# Altium footprint library CONNECTOR.PcbLib: 181 footprints (part 4 of 12)
Each footprint in its own frame and in the unit in brackets; x right, y up, seen from the top. Pads: shape width x height; smd on the part's side, far side on the other; paste and mask are expansions set on the pad; w line width, h text height; cw(c..) or ccw(c..) is an arc to the next point about the centre after c.
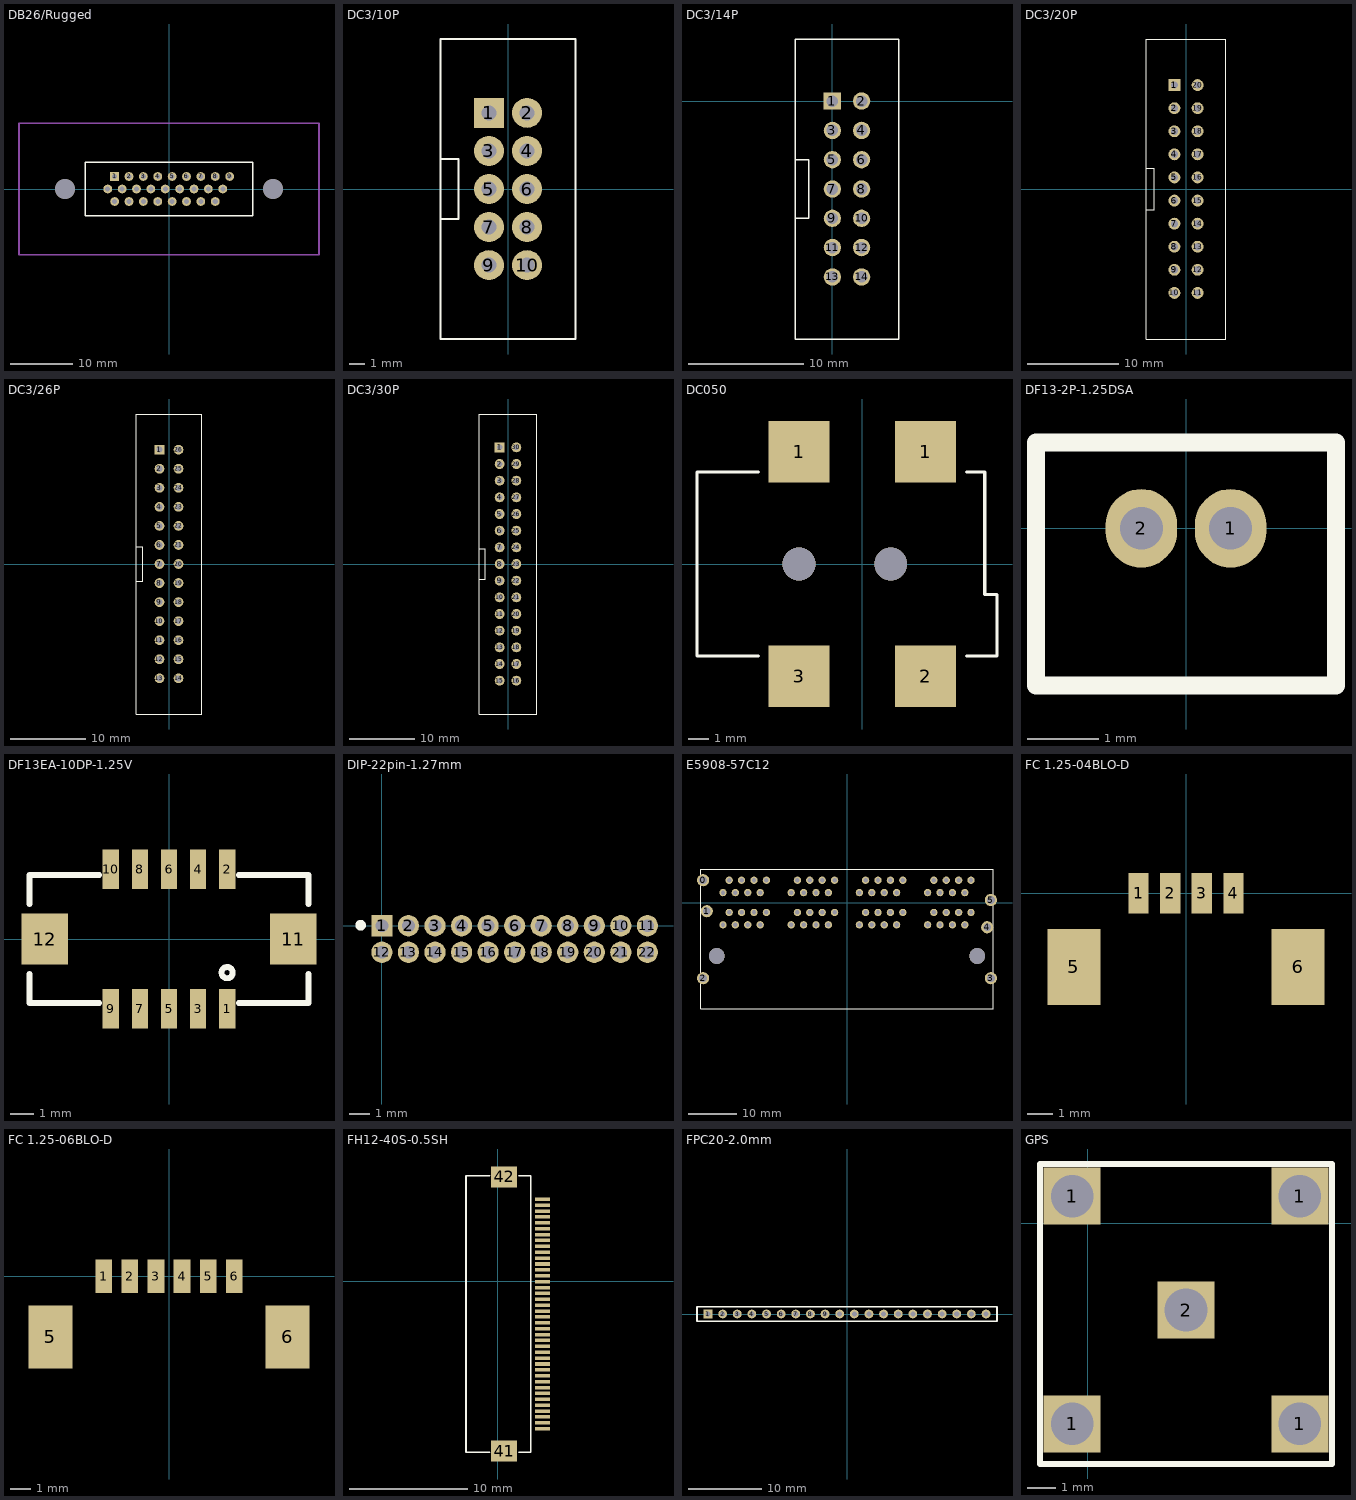
[diagram p3: the footprints below, top view; thin cyan lines are the x and y axes]

## DB26/Rugged [mm] "MDBA26PE860"
height 17
pads (26):
  rect 1.4x1.4 hole 0.8: 1(-8.7,2)
  round 1.4 hole 0.8: 2(-6.4,2) 3(-4.1,2) 4(-1.8,2) 5(0.5,2) 6(2.8,2) 7(5.1,2) 8(7.4,2) 9(9.7,2) 10(-9.8,0) 11(-7.5,0) 12(-5.2,0) 13(-2.9,0) 14(-0.6,0) 15(1.7,0) 16(4,0) 17(6.3,0) 18(8.6,0) 19(-8.7,-2) 20(-6.4,-2) 21(-4.1,-2) 22(-1.8,-2) 23(0.5,-2) 24(2.8,-2) 25(5.1,-2) 26(7.4,-2)
via 16.65,0 diameter 3.2 hole 3.2
via -16.65,0 diameter 3.2 hole 3.2
Top Overlay:
  lines w0.254: -13.4,-4.3 13.4,-4.3 13.4,4.3 -13.4,4.3 -13.4,-4.3
Mechanical 15:
  lines w0.254: -24,-10.5 -24,10.5 24,10.5 24,-10.5 -24,-10.5

## DC3/10P [mm] "DC3简易牛角"
height 8.7
pads (10):
  rect 2x2 hole 1 paste+0: 1(-1.27,5.08)
  round 2 hole 1 paste+0: 2(1.27,5.08) 3(-1.27,2.54) 4(1.27,2.54) 5(-1.27,0) 6(1.27,0) 7(-1.27,-2.54) 8(1.27,-2.54) 9(-1.27,-5.08) 10(1.27,-5.08)
Top Overlay:
  lines w0.127: -4.5,-2 -3.302,-2 -3.302,2 -4.5,2 ; -4.5,-10 -4.5,10 4.5,10 4.5,-10 -4.5,-10

## DC3/14P [mm] "DC3简易牛角"
height 8.7
pads (14):
  rect 1.5x1.5 hole 1 paste+0: 1(0,0)
  round 1.5 hole 1 paste+0: 2(2.54,0) 3(0,-2.54) 4(2.54,-2.54) 5(0,-5.08) 6(2.54,-5.08) 7(0,-7.62) 8(2.54,-7.62) 9(0,-10.16) 10(2.54,-10.16) 11(0,-12.7) 12(2.54,-12.7) 13(0,-15.24) 14(2.54,-15.24)
Top Overlay:
  lines w0.127: -3.23,-10.16 -2.032,-10.16 -2.032,-5.08 -3.048,-5.08 -3.23,-5.08 ; -3.23,-20.62 -3.23,5.38 5.77,5.38 5.77,-20.62 -3.23,-20.62

## DC3/20P [mm] "DC3简易牛角"
height 8.7
pads (20):
  rect 1.3x1.3 hole 0.8: 1(-1.27,11.43)
  round 1.3 hole 0.8: 2(-1.27,8.89) 3(-1.27,6.35) 4(-1.27,3.81) 5(-1.27,1.27) 6(-1.27,-1.27) 7(-1.27,-3.81) 8(-1.27,-6.35) 9(-1.27,-8.89) 10(-1.27,-11.43) 11(1.27,-11.43) 12(1.27,-8.89) 13(1.27,-6.35) 14(1.27,-3.81) 15(1.27,-1.27) 16(1.27,1.27) 17(1.27,3.81) 18(1.27,6.35) 19(1.27,8.89) 20(1.27,11.43)
Top Overlay:
  lines w0.127: -4.386,-2.3 -3.5,-2.3 -3.5,2.3 -4.386,2.3 ; -4.4,-16.5 4.4,-16.5 4.4,16.5 -4.4,16.5 -4.4,-16.5

## DC3/26P [mm] "DC3简易牛角"
height 8.7
pads (26):
  rect 1.3x1.3 hole 0.8: 1(-1.27,15.24)
  round 1.3 hole 0.8: 2(-1.27,12.7) 3(-1.27,10.16) 4(-1.27,7.62) 5(-1.27,5.08) 6(-1.27,2.54) 7(-1.27,0) 8(-1.27,-2.54) 9(-1.27,-5.08) 10(-1.27,-7.62) 11(-1.27,-10.16) 12(-1.27,-12.7) 13(-1.27,-15.24) 14(1.27,-15.24) 15(1.27,-12.7) 16(1.27,-10.16) 17(1.27,-7.62) 18(1.27,-5.08) 19(1.27,-2.54) 20(1.27,0) 21(1.27,2.54) 22(1.27,5.08) 23(1.27,7.62) 24(1.27,10.16) 25(1.27,12.7) 26(1.27,15.24)
Top Overlay:
  lines w0.127: -4.386,-2.3 -3.5,-2.3 -3.5,2.3 -4.386,2.3 ; -4.4,-20 -4.4,20 4.4,20 4.4,-20 -4.4,-20

## DC3/30P [mm] "DC3简易牛角"
height 8.7
pads (30):
  rect 1.5x1.5 hole 0.8: 1(-1.27,17.78)
  round 1.5 hole 0.8: 2(-1.27,15.24) 3(-1.27,12.7) 4(-1.27,10.16) 5(-1.27,7.62) 6(-1.27,5.08) 7(-1.27,2.54) 8(-1.27,0) 9(-1.27,-2.54) 10(-1.27,-5.08) 11(-1.27,-7.62) 12(-1.27,-10.16) 13(-1.27,-12.7) 14(-1.27,-15.24) 15(-1.27,-17.78) 16(1.27,-17.78) 17(1.27,-15.24) 18(1.27,-12.7) 19(1.27,-10.16) 20(1.27,-7.62) 21(1.27,-5.08) 22(1.27,-2.54) 23(1.27,0) 24(1.27,2.54) 25(1.27,5.08) 26(1.27,7.62) 27(1.27,10.16) 28(1.27,12.7) 29(1.27,15.24) 30(1.27,17.78)
Top Overlay:
  lines w0.127: -4.386,-2.3 -3.5,-2.3 -3.5,2.3 -4.386,2.3 ; -4.4,-22.86 -4.4,22.86 4.4,22.86 4.4,-22.86 -4.4,-22.86

## DC050 [mm]
height 11
pads (4):
  rect 3x3 smd: 1(-3.1,5.5) 1(3.1,5.5) 2(3.1,-5.5) 3(-3.1,-5.5)
via 1.4,0 diameter 1.6 hole 1.6
via -3.1,0 diameter 1.6 hole 1.6
Top Overlay:
  lines w0.152: -5.1,-4.5 -8.1,-4.5 -8.1,4.5 -5.1,4.5 ; 5.1,-4.5 6.6,-4.5 6.599,-1.5 6,-1.5 6,4.5 5.1,4.5

## DF13-2P-1.25DSA [mm] "1.25间距，2pin"
height 4.3
pads (2):
  oval 1x1.1 hole 0.6: 1(0.625,0) 2(-0.625,0)
Top Overlay:
  lines w0.254: -2.1,-2.2 -2.1,1.2 2.1,1.2 2.1,-2.2 -2.1,-2.2

## DF13EA-10DP-1.25V [mm] "1.25mm间距贴片插座"
height 4.8
pads (12):
  rect 0.7x1.7 smd: 1(2.5,-3) 2(2.5,3) 3(1.25,-3) 4(1.25,3) 5(0,-3) 6(0,3) 7(-1.25,-3) 8(-1.25,3) 9(-2.5,-3) 10(-2.5,3)
  rect 2x2.2 smd: 11(5.35,0) 12(-5.35,0)
Top Overlay:
  circle w0.254: c2.5,-1.448 r0.241
  lines w0.254: -6,-1.5 -6,-2.75 -3,-2.75 ; -6,1.5 -6,2.75 -3,2.75 ; 3,-2.75 6,-2.75 6,-1.5 ; 3,2.75 6,2.75 6,1.5

## DIP-22pin-1.27mm [mil] "1.27mm,22pin,DIP"
height 4.3
pads (22):
  rect 40x40 hole 24: 1(0,0)
  round 40 hole 24: 2(50,0) 3(100,0) 4(150,0) 5(200,0) 6(250,0) 7(300,0) 8(350,0) 9(400,0) 10(450,0) 11(500,0) 12(0,-50) 13(50,-50) 14(100,-50) 15(150,-50) 16(200,-50) 17(250,-50) 18(300,-50) 19(350,-50) 20(400,-50) 21(450,-50) 22(500,-50)
Top Overlay:
  circle w10: c-40.06,1 r4.94

## E5908-57C12 [mm] "RJ45 2*4 FRE CAT3"
height 25.3
pads (70):
  round 2.5 hole 1.6: 0(-29.47,4.58) 1(-28.71,-1.77) 2(-29.47,-15.49) 3(29.47,-15.49) 4(28.71,-5.07) 5(29.47,0.51)
  round 1.5 hole 0.9: P11(-25.4,-4.57) P12(-24.13,-2.03) P13(-22.86,-4.57) P14(-21.59,-2.03) P15(-20.32,-4.57) P16(-19.05,-2.03) P17(-17.78,-4.57) P18(-16.51,-2.03) P21(-16.51,4.57) P22(-17.78,2.03) P23(-19.05,4.57) P24(-20.32,2.03) P25(-21.59,4.57) P26(-22.86,2.03) P27(-24.13,4.57) P28(-25.4,2.03) P31(-11.43,-4.57) P32(-10.16,-2.03) P33(-8.89,-4.57) P34(-7.62,-2.03) P35(-6.35,-4.57) P36(-5.08,-2.03) P37(-3.81,-4.57) P38(-2.54,-2.03) P41(-2.54,4.57) P42(-3.81,2.03) P43(-5.08,4.57) P44(-6.35,2.03) P45(-7.62,4.57) P46(-8.89,2.03) P47(-10.16,4.57) P48(-11.43,2.03) P51(2.54,-4.57) P52(3.81,-2.03) P53(5.08,-4.57) P54(6.35,-2.03) P55(7.62,-4.57) P56(8.89,-2.032) P57(10.16,-4.57) P58(11.43,-2.03) P61(11.43,4.57) P62(10.16,2.03) P63(8.89,4.57) P64(7.62,2.03) P65(6.35,4.57) P66(5.08,2.03) P67(3.81,4.57) P68(2.54,2.03) P71(16.51,-4.57) P72(17.78,-2.03) P73(19.05,-4.57) P74(20.32,-2.03) P75(21.59,-4.57) P76(22.86,-2.03) P77(24.13,-4.572) P78(25.4,-2.03) P81(25.4,4.57) P82(24.13,2.03) P83(22.86,4.57) P84(21.59,2.03) P85(20.32,4.57) P86(19.05,2.03) P87(17.78,4.57) P88(16.51,2.03)
via -26.67,-10.92 diameter 3.25 hole 3.25
via 26.67,-10.92 diameter 3.25 hole 3.25
Top Overlay:
  lines w0.127: -30,-21.72 -30,6.78 30,6.78 30,-21.72 -30,-21.72

## FC 1.25-04BLO-D [mm] "1.25mm贴片座"
height 3.4
pads (6):
  rect 0.8x1.6 smd: 1(-1.875,0) 2(-0.625,0) 3(0.625,0) 4(1.875,0)
  rect 2.1x3 smd: 5(-4.425,-2.9) 6(4.425,-2.9)

## FC 1.25-06BLO-D [mm] "1.25mm贴片座"
height 3.4
pads (8):
  rect 0.8x1.6 smd: 1(-3.125,0) 2(-1.875,0) 3(-0.625,0) 4(0.625,0) 5(1.875,0) 6(3.125,0)
  rect 2.1x3 smd: 5(-5.675,-2.9) 6(5.675,-2.9)

## FH12-40S-0.5SH [mm] "FPC/FFC"
height 2
pads (42):
  rect 1.3x0.3 smd: 1(3.779,-12.551) 2(3.779,-12.051) 3(3.779,-11.551) 4(3.779,-11.051) 5(3.779,-10.551) 6(3.779,-10.051) 7(3.779,-9.551) 8(3.779,-9.051) 9(3.779,-8.551) 10(3.779,-8.051) 11(3.779,-7.551) 12(3.779,-7.051) 13(3.779,-6.551) 14(3.779,-6.051) 15(3.779,-5.551) 16(3.779,-5.051) 17(3.779,-4.551) 18(3.779,-4.051) 19(3.779,-3.551) 20(3.779,-3.051) 21(3.779,-2.551) 22(3.779,-2.051) 23(3.779,-1.551) 24(3.779,-1.051) 25(3.779,-0.551) 26(3.779,-0.051) 27(3.779,0.449) 28(3.779,0.949) 29(3.779,1.449) 30(3.779,1.949) 31(3.779,2.449) 32(3.779,2.949) 33(3.779,3.449) 34(3.779,3.949) 35(3.779,4.449) 36(3.779,4.949) 37(3.779,5.449) 38(3.779,5.949) 39(3.779,6.449) 40(3.779,6.949)
  rect 2.2x1.8 smd: 41(0.529,-14.451) 42(0.529,8.849)
Top Overlay:
  lines w0.152: -0.721,-14.551 -2.721,-14.551 -2.721,8.949 -0.721,8.949 ; 1.779,-14.551 2.779,-14.551 2.779,8.949 1.779,8.949

## FPC20-2.0mm [mm]
height 5
pads (20):
  rect 1.2x1.2 hole 0.7: 1(-19,0)
  round 1.2 hole 0.7: 2(-17,0) 3(-15,0) 4(-13,0) 5(-11,0) 6(-9,0) 7(-7,0) 8(-5,0) 9(-3,0) 10(-1,0) 11(1,0) 12(3,0) 13(5,0) 14(7,0) 15(9,0) 16(11,0) 17(13,0) 18(15,0) 19(17,0) 20(19,0)
Top Overlay:
  lines w0.254: -20.5,-1 20.5,-1 20.5,1 -20.5,1 -20.5,-1

## GPS [mm]
pads (5):
  rect 2x2 hole 1.5 paste+0: 1(-0.546,-7.048) 1(-0.546,0.952) 1(7.454,-7.048) 1(7.454,0.952) 2(3.454,-3.048)
Top Overlay:
  lines w0.2: -1.676,-8.458 8.585,-8.458 8.585,2.083 -1.676,2.083 -1.676,-8.458